# Altium footprint library DIP.PcbLib: 3 footprints
Each footprint in its own frame and in the unit in brackets; x right, y up, seen from the top. Pads: shape width x height; smd on the part's side, far side on the other; paste and mask are expansions set on the pad; w line width, h text height; cw(c..) or ccw(c..) is an arc to the next point about the centre after c.
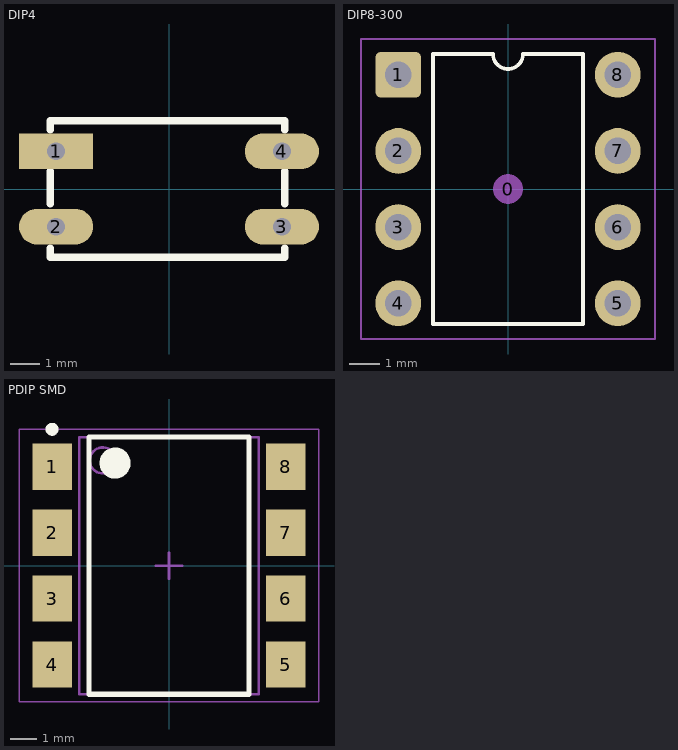
[diagram p0: the footprints below, top view; thin cyan lines are the x and y axes]

## DIP4 [mm]
pads (4):
  rect 2.5x1.2 hole 0.6: 1(-3.81,1.27)
  oval 2.5x1.2 hole 0.6: 2(-3.81,-1.27) 3(3.81,-1.27) 4(3.81,1.27)
Top Overlay:
  lines w0.254: -4,-2 -4,-2.3 3.9,-2.3 3.9,-2 ; -4,-0.5 -4,0.6 ; -4,2 -4,2.3 3.9,2.3 3.9,2 ; 3.9,-0.5 3.9,0.6
3D body "User Library-DIP4-7_62-2_54.step": height 4.3, standoff -2.7, extent -3.94,-2.295 3.94,2.295

## DIP8-300 [mil] "DIP, 8-Leads, 0.300\" lead span , 0.100\" lead pitch, IPC Density A"
height 210
pads (9):
  round 39.37 on Mech15: 0(0,0)
  rrect25% 60x60 hole 35: 1(-144,150)
  round 60 hole 35: 2(-144,50) 3(-144,-50) 4(-144,-150) 5(144,-150) 6(144,-50) 7(144,50) 8(144,150)
Top Overlay:
  lines w5: -98.43,-177.17 -98.43,177.17 -19.69,177.17 ccw(c0,177.17) 19.69,177.17 98.43,177.17 98.43,-177.17 -98.43,-177.17
Mechanical 13:
  lines w3: -98.43,-177.17 98.43,-177.17 98.43,177.17 19.69,177.17 cw(c0,177.17) -19.69,177.17 -98.43,177.17 -98.43,-177.17
Mechanical 15:
  lines w3: -192.91,-196.85 -192.91,196.85 192.91,196.85 192.91,-196.85 -192.91,-196.85
3D body "SW3DPS-DIP8-DEFAULT.STEP": height 165, standoff -105, extent -149,-225 161,225

## PDIP SMD [mm] "SOP, 8-Leads, Body 9,66x6,60mm, Pitch 2,54mm, IPC Medium Density"
height 5.08
pads (8):
  rect 1.52x1.78 smd: 1(-4.5,3.81) 2(-4.5,1.27) 3(-4.5,-1.27) 4(-4.5,-3.81) 5(4.5,-3.81) 6(4.5,-1.27) 7(4.5,1.27) 8(4.5,3.81)
Top Overlay:
  circle w0.25: c-4.5,5.25 r0.125
  circle w0.6: c-2.075,3.95 r0.3
  lines w0.2: -3.075,-4.95 -3.075,4.95 3.075,4.95 3.075,-4.95 -3.075,-4.95
Mechanical 13:
  circle w0.1: c-2.55,4.05 r0.5
  lines w0.1: -3.45,-4.95 -3.45,4.95 3.45,4.95 3.45,-4.95 -3.45,-4.95
Mechanical 15:
  lines w0.05: -5.775,-5.25 -5.775,5.25 5.775,5.25 5.775,-5.25 -5.775,-5.25
  lines w0.1: -0.5,0 0.5,0 ; 0,-0.5 0,0.5
3D body "pdip8-smd.step": height 5.08, standoff 0, extent -5.2,-4.98 5.1,4.93